# EAGLE library part LM339 (library PP_AnalogIC)
Manufacturer Part #: LM339 Manufacturer: Texas Instruments Description: Analog Comparators Quad Diff A Grade
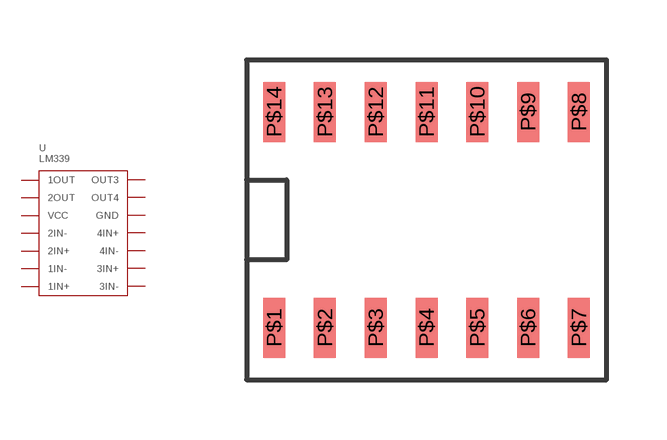
[diagram p4: symbol with the pads of LM339_SOIC-14; footprint LM339_SOIC-14]

Designator prefix U

## LM339ADR (POPULATE: 1)  [LM339_SOIC-14]
P$1  1OUT
P$2  2OUT
P$3  VCC
P$4  2IN-
P$5  2IN+
P$6  1IN-
P$7  1IN+
P$8  3IN-
P$9  3IN+
P$10  4IN-
P$11  4IN+
P$12  GND
P$13  OUT4
P$14  OUT3

## Footprint LM339_SOIC-14 (pad centres in mm)
smd 0.55 x 1.5: P$1 -3.81,-2.7; P$2 -2.54,-2.7; P$3 -1.27,-2.7; P$4 0,-2.7; P$5 1.27,-2.7; P$6 2.54,-2.7; P$7 3.81,-2.7; P$8 3.81,2.7; P$9 2.54,2.7; P$10 1.27,2.7; P$11 0,2.7; P$12 -1.27,2.7; P$13 -2.54,2.7; P$14 -3.81,2.7